# Altium schematic symbol library Schlib1.SchLib: 1 symbol
Pins are listed as number, name and electrical type; pins without a type are passive.

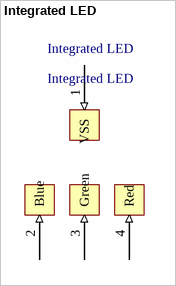
[diagram p0: symbol Integrated LED]

## Integrated LED
designator Integrated LED
footprint Integrated LED
pins: 1 VSS (in), 2 Blue (in), 3 Green (in), 4 Red (in)